# Altium footprint library SRN6045-4R7Y-pcb-part-libraries.PcbLib: 4 footprints
Each footprint in its own frame and in the unit in brackets; x right, y up, seen from the top. Pads: shape width x height; smd on the part's side, far side on the other; paste and mask are expansions set on the pad; w line width, h text height; cw(c..) or ccw(c..) is an arc to the next point about the centre after c.
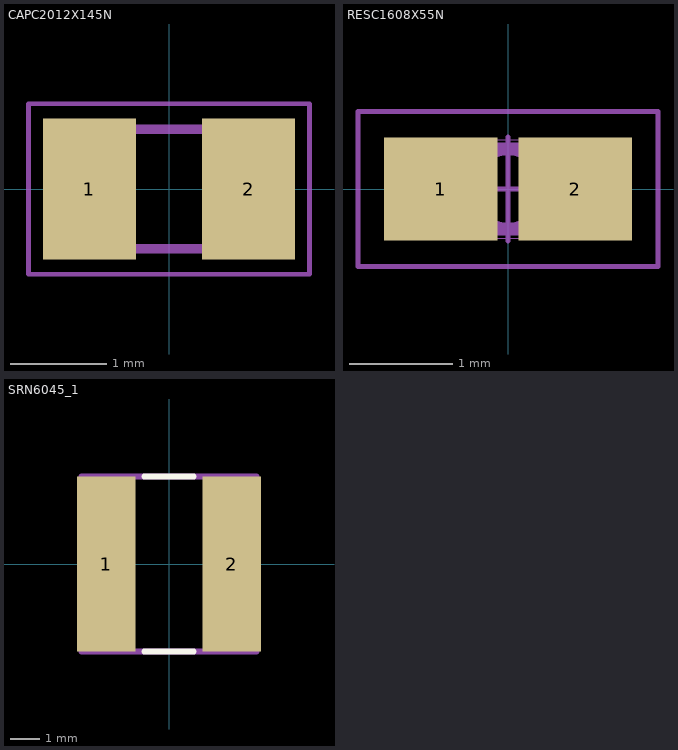
[diagram p0: the footprints below, top view; thin cyan lines are the x and y axes]

## CAPC2012X145N [mm]
pads (2):
  rect 0.97x1.47 smd: 1(-0.83,0) 2(0.83,0)
Mechanical 13:
  lines w0.1: -1,-0.625 1,-0.625 1,0.625 -1,0.625 -1,-0.625
Mechanical 15:
  lines w0.05: -1.465,-0.89 1.465,-0.89 1.465,0.89 -1.465,0.89 -1.465,-0.89
3D body "GRM21BR61E106MA73L.stp": height 1.45, standoff 0, extent -1,-0.625 1,0.625

## PCBComponent_1 [mm]

## RESC1608X55N [mm]
pads (2):
  rect 1.1x1 smd: 1(-0.65,0) 2(0.65,0)
Mechanical 13:
  lines w0.1: -0.8,-0.4 0.8,-0.4 0.8,0.4 -0.8,0.4 -0.8,-0.4
Mechanical 15:
  circle w0.05: c0,0 r0.35
  lines w0.001: -0.85,-0.475 0.85,-0.475 0.85,0.475 -0.85,0.475 -0.85,-0.475
  lines w0.05: -0.5,0 0.5,0 ; 0,-0.5 0,0.5 ; -1.45,-0.75 1.45,-0.75 1.45,0.75 -1.45,0.75 -1.45,-0.75
3D body "RC0603FR-0730RL.stp": height 0.55, standoff 0, extent -0.8,-0.4 0.8,0.4

## SRN6045_1 [mm]
pads (2):
  rect 2.01x6 smd: 1(-2.15,0) 2(2.15,0)
Top Overlay:
  lines w0.2: -0.85,-3 0.85,-3 ; -0.85,3 0.85,3
Mechanical 13:
  lines w0.2: -3,-3 3,-3 3,3 -3,3 -3,-3
3D body "SRN6045-4R7Y.stp": height 4.5, standoff 0, extent -3,-3 3,3